# EAGLE library part 48DC-12DC (library Shell2012)
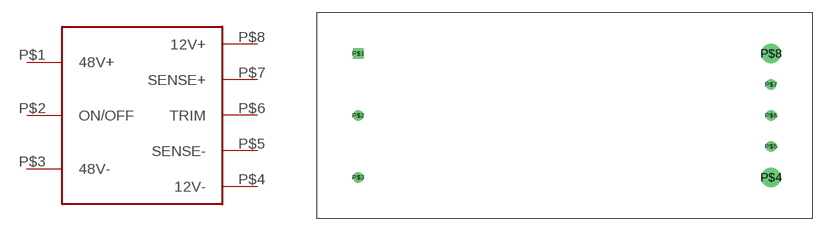
[diagram p2: symbol with the pads of 48DC-12DC; footprint 48DC-12DC]

Designator prefix -

## 48DC-12DC  [48DC-12DC]
P$1  48V+
P$2  ON/OFF
P$3  48V-
P$4  12V-
P$5  SENSE-
P$6  TRIM
P$7  SENSE+
P$8  12V+

## Footprint 48DC-12DC (pad centres in mm)
drill 0.8 square: P$1 -25.4,7.62
drill 0.8 round: P$2 -25.4,0; P$3 -25.4,-7.62; P$5 25.4,-3.81; P$6 25.4,0; P$7 25.4,3.81
drill 1.6 round: P$4 25.4,-7.62; P$8 25.4,7.62